# EAGLE library part GEC14DABN-M30 (library con-sullins)
HEADER - Vertical
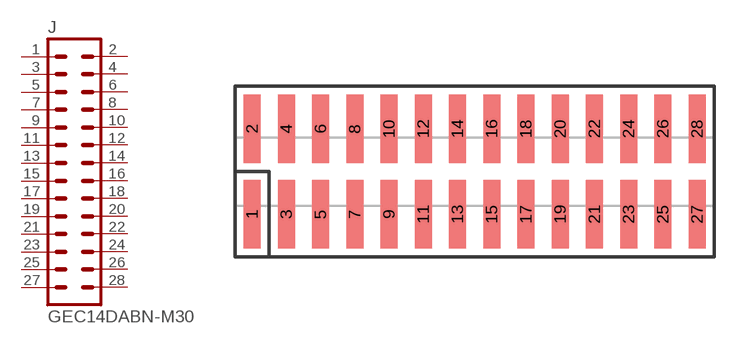
[diagram p10: symbol with the pads of GXC14; footprint GXC14]

Designator prefix J

## GEC14DABN-M30  [GXC14]
1  1  pas
2  2  pas
3  3  pas
4  4  pas
5  5  pas
6  6  pas
7  7  pas
8  8  pas
9  9  pas
10  10  pas
11  11  pas
12  12  pas
13  13  pas
14  14  pas
15  15  pas
16  16  pas
17  17  pas
18  18  pas
19  19  pas
20  20  pas
21  21  pas
22  22  pas
23  23  pas
24  24  pas
25  25  pas
26  26  pas
27  27  pas
28  28  pas

## Footprint GXC14 (pad centres in mm)
SMD HEADER - 0.1", Vertical
smd 1.27 x 5.08: 1 -16.51,-3.175; 2 -16.51,3.175; 3 -13.97,-3.175; 4 -13.97,3.175; 5 -11.43,-3.175; 6 -11.43,3.175; 7 -8.89,-3.175; 8 -8.89,3.175; 9 -6.35,-3.175; 10 -6.35,3.175; 11 -3.81,-3.175; 12 -3.81,3.175; 13 -1.27,-3.175; 14 -1.27,3.175; 15 1.27,-3.175; 16 1.27,3.175; 17 3.81,-3.175; 18 3.81,3.175; 19 6.35,-3.175; 20 6.35,3.175; 21 8.89,-3.175; 22 8.89,3.175; 23 11.43,-3.175; 24 11.43,3.175; 25 13.97,-3.175; 26 13.97,3.175; 27 16.51,-3.175; 28 16.51,3.175